# Altium schematic symbol library GENERIC_LAYER_COUNTER.SchLib: 1 symbol
Pins are listed as number, name and electrical type; pins without a type are passive.

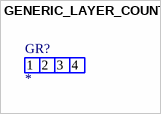
[diagram p0: symbol GENERIC_LAYER_COUNTER]

## GENERIC_LAYER_COUNTER
designator GR?  (no BOM)
text: 1; 2; 3; 4